# Altium schematic symbol library RES 6.8 1_8W.Schlib: 1 symbol
Pins are listed as number, name and electrical type; pins without a type are passive.

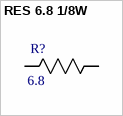
[diagram p0: symbol RES 6.8 1/8W]

## RES 6.8 1/8W
designator R?, comment 6.8
RES SMD 6.8 OHM 5% 1/8W 0805; Power (Watts): 0.125W; Package: 0805; Value: 6.8; Tolerance: 5%
footprint 0805
footprint 0603
pins: 1 R1, 2 R2